# EAGLE library part DIP-BLACK-MALE-HEADER-VERT(11P-2.54) (library Seeed-OPL-Connector)
320020060
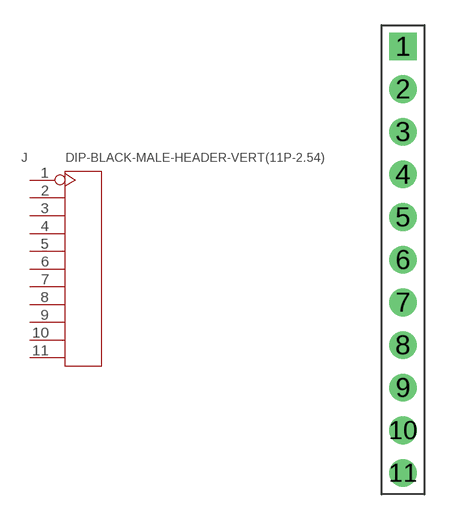
[diagram p114: symbol with the pads of H11-2.54; footprint H11-2.54]

Designator prefix J

## DIP-BLACK-MALE-HEADER-VERT(11P-2.54) (MPN: P125-1111A0BS116AX; VALUE: 11p-2.54)  [H11-2.54]
1  1
2  2
3  3
4  4
5  5
6  6
7  7
8  8
9  9
10  10
11  11

## Footprint H11-2.54 (pad centres in mm)
drill 0.889 pad 1.651 square: 1 0,12.7
drill 0.889 pad 1.651: 2 0,10.16; 3 0,7.62; 4 0,5.08; 5 0,2.54; 6 0,0; 7 0,-2.54; 8 0,-5.08; 9 0,-7.62; 10 0,-10.16; 11 0,-12.7